# EAGLE library part DRV8220DRLR (library DRV8220DRL)
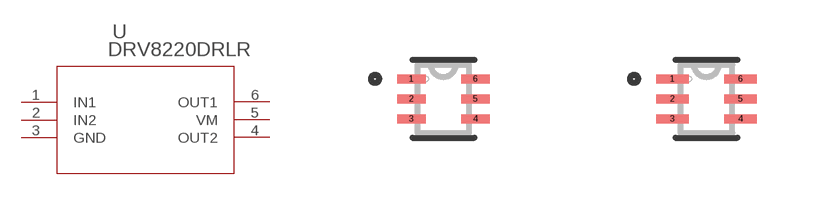
[diagram p0: symbol with the pads of SOT5X3-6_DRL_TEX; footprints SOT5X3-6_DRL_TEX, SOT5X3-6_DRL_TEX-M]

Designator prefix U

## DRV8220DRLRSOT5X3-6_DRL_TEX (COPYRIGHT: Copyright (C) 2025 Ultra Librarian. All rights reserved.; MANUFACTURER_PART_NUMBER: DRV8220DRLR; MFR_NAME: Texas Instruments; TYPE: Power Management)  [SOT5X3-6_DRL_TEX]
1  IN1  in
2  IN2  in
3  GND  pas
4  OUT2  out
5  VM  pwr
6  OUT1  out

## DRV8220DRLRSOT5X3-6_DRL_TEX-M (COPYRIGHT: Copyright (C) 2025 Ultra Librarian. All rights reserved.; MANUFACTURER_PART_NUMBER: DRV8220DRLR; MFR_NAME: Texas Instruments; TYPE: Power Management)  [SOT5X3-6_DRL_TEX-M]
Pads as for SOT5X3-6_DRL_TEX

## DRV8220DRLRSOT5X3-6_DRL_TEX-L (COPYRIGHT: Copyright (C) 2025 Ultra Librarian. All rights reserved.; MANUFACTURER_PART_NUMBER: DRV8220DRLR; MFR_NAME: Texas Instruments; TYPE: Power Management)  [SOT5X3-6_DRL_TEX-L]
Pads as for SOT5X3-6_DRL_TEX

## Footprint SOT5X3-6_DRL_TEX (pad centres in mm)
smd 0.711 x 0.229: 1 -0.8,0.5; 2 -0.8,0; 3 -0.8,-0.5; 4 0.8,-0.5; 5 0.8,0; 6 0.8,0.5

## Footprint SOT5X3-6_DRL_TEX-M (pad centres in mm)
smd 0.813 x 0.229: 1 -0.851,0.5; 2 -0.851,0; 3 -0.851,-0.5; 4 0.851,-0.5; 5 0.851,0; 6 0.851,0.5

## Footprint SOT5X3-6_DRL_TEX-L (pad centres in mm)
smd 0.61 x 0.229: 1 -0.749,0.5; 2 -0.749,0; 3 -0.749,-0.5; 4 0.749,-0.5; 5 0.749,0; 6 0.749,0.5